# Altium footprint library PcbLib1.PcbLib: 1 footprints
Each footprint in its own frame and in the unit in brackets; x right, y up, seen from the top. Pads: shape width x height; smd on the part's side, far side on the other; paste and mask are expansions set on the pad; w line width, h text height; cw(c..) or ccw(c..) is an arc to the next point about the centre after c.
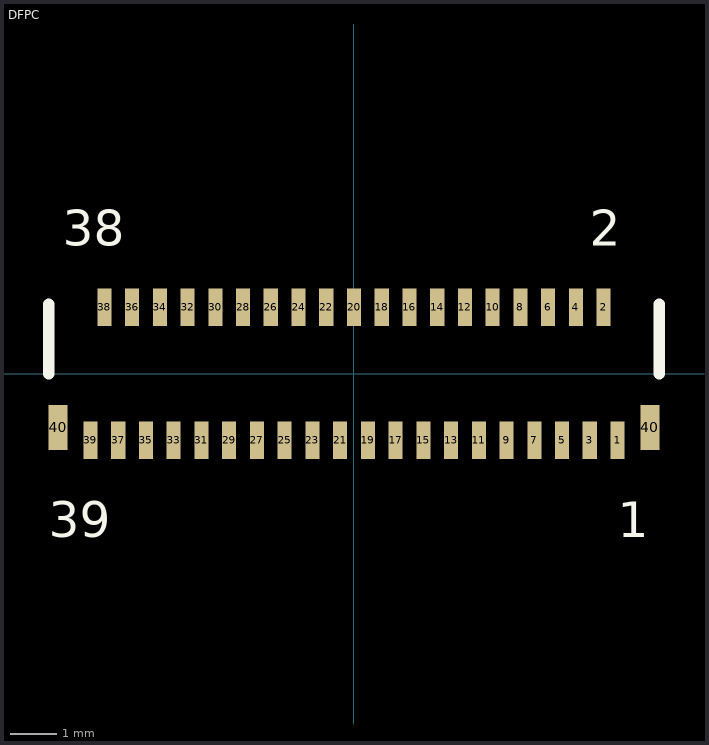
[diagram p0: the footprint, top view; thin cyan lines are the x and y axes]

## DFPC [mil]
pads (41):
  rect 12x32 smd: 1(224.41,-56.59) 2(212.6,56.59) 3(200.79,-56.59) 4(188.98,56.59) 5(177.17,-56.59) 6(165.35,56.59) 7(153.54,-56.59) 8(141.73,56.59) 9(129.92,-56.59) 10(118.11,56.59) 11(106.3,-56.59) 12(94.49,56.59) 13(82.68,-56.59) 14(70.87,56.59) 15(59.06,-56.59) 16(47.24,56.59) 17(35.43,-56.59) 18(23.62,56.59) 19(11.81,-56.59) 20(0,56.59) 21(-11.81,-56.59) 22(-23.62,56.59) 23(-35.43,-56.59) 24(-47.24,56.59) 25(-59.06,-56.59) 26(-70.87,56.59) 27(-82.68,-56.59) 28(-94.49,56.59) 29(-106.3,-56.59) 30(-118.11,56.59) 31(-129.92,-56.59) 32(-141.73,56.59) 33(-153.54,-56.59) 34(-165.35,56.59) 35(-177.17,-56.59) 36(-188.98,56.59) 37(-200.79,-56.59) 38(-212.6,56.59) 39(-224.41,-56.59)
  rect 16x38 smd: 40(-251.97,-45.77) 40(251.97,-45.77)
Top Overlay:
  lines w10: -260,0 -260,59.06 ; 260,0 260,59.06
  text "1" at 224.41,-139.27 h30
  text "2" at 200.79,108.76 h30
  text "39" at -259.84,-139.27 h30
  text "38" at -248.03,108.76 h30